# Altium integrated library Vin30V Vout3.3V.IntLib: 1 symbol
Pins are listed as number, name and electrical type; pins without a type are passive.

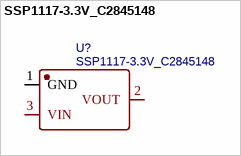
[diagram p0: symbol SSP1117-3.3V_C2845148]

## SSP1117-3.3V_C2845148
designator U?
BOM_Manufacturer: Siproin(上海矽朋); Contributor: LCSC; BOM_Supplier: LCSC; BOM_Supplier Part: C2845148; BOM_Manufacturer Part: SSP1117-3.3V; spicePre: U; spiceSymbolName: SSP1117-3.3V_C2845148
footprint TO-252-2_L6.5-W6.1-P4.58-LS10.0-BR
pins: 1 GND, 2 VOUT, 3 VIN